# EAGLE library part DIP-BLACK-MALE-HEADER(2X14P-2.54) (library Seeed-OPL-Connector)
320070016
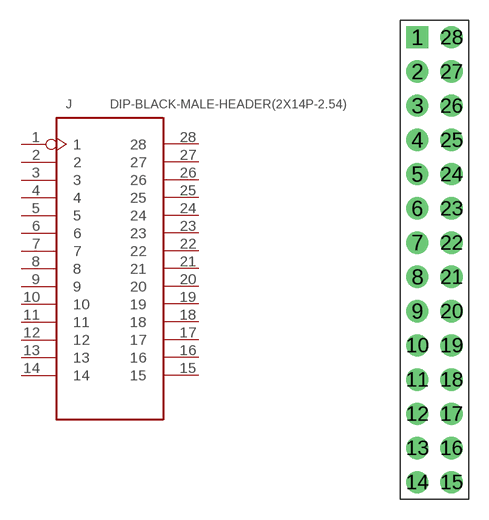
[diagram p146: symbol with the pads of H2X14-2.54; footprint H2X14-2.54]

Designator prefix J

## DIP-BLACK-MALE-HEADER(2X14P-2.54) (MPN: ICS-28P-15.24; VALUE: 2x14p-2.54)  [H2X14-2.54]
1  1
2  2
3  3
4  4
5  5
6  6
7  7
8  8
9  9
10  10
11  11
12  12
13  13
14  14
15  15
16  16
17  17
18  18
19  19
20  20
21  21
22  22
23  23
24  24
25  25
26  26
27  27
28  28

## Footprint H2X14-2.54 (pad centres in mm)
drill 0.889 pad 1.651 square: 1 -1.27,16.51
drill 0.889 pad 1.651: 2 -1.27,13.97; 3 -1.27,11.43; 4 -1.27,8.89; 5 -1.27,6.35; 6 -1.27,3.81; 7 -1.27,1.27; 8 -1.27,-1.27; 9 -1.27,-3.81; 10 -1.27,-6.35; 11 -1.27,-8.89; 12 -1.27,-11.43; 13 -1.27,-13.97; 14 -1.27,-16.51; 15 1.27,-16.51; 16 1.27,-13.97; 17 1.27,-11.43; 18 1.27,-8.89; 19 1.27,-6.35; 20 1.27,-3.81; 21 1.27,-1.27; 22 1.27,1.27; 23 1.27,3.81; 24 1.27,6.35; 25 1.27,8.89; 26 1.27,11.43; 27 1.27,13.97; 28 1.27,16.51